# Altium footprint library BDV08230AY.PcbLib: 1 footprints
Each footprint in its own frame and in the unit in brackets; x right, y up, seen from the top. Pads: shape width x height; smd on the part's side, far side on the other; paste and mask are expansions set on the pad; w line width, h text height; cw(c..) or ccw(c..) is an arc to the next point about the centre after c.
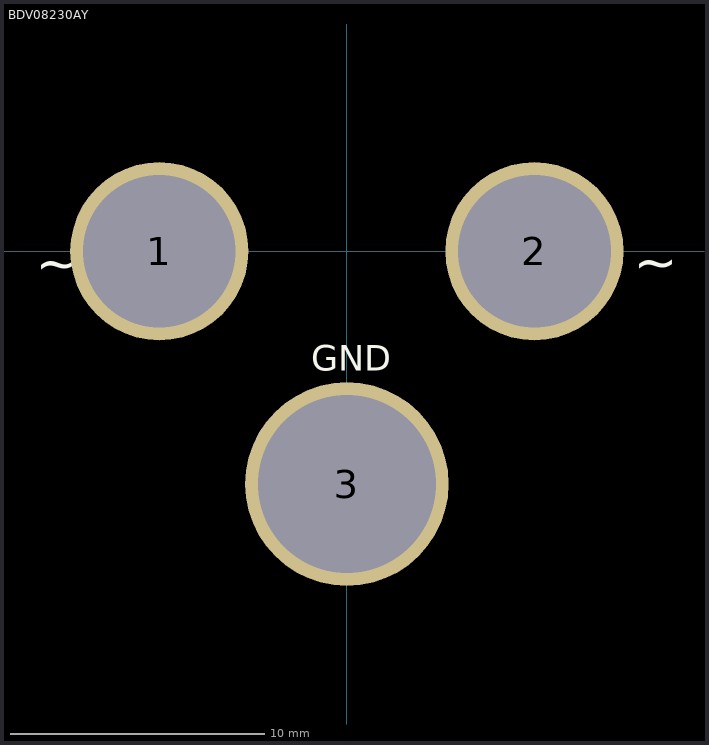
[diagram p0: the footprint, top view; thin cyan lines are the x and y axes]

## BDV08230AY [mm] "ODE 16VA Solenoid"
pads (3):
  round 7 hole 6: 1(-7.366,0) 2(7.366,0)
  round 8 hole 7: 3(0,-9.144)
Top Overlay:
  text "~" at -12.217,-1.194 h1.5
  text "~" at 11.278,-1.168 h1.5
  text "GND" at -1.397,-4.699 h1